# Altium footprint library Vertical, Single-Row, Flange Mount with Tab.PcbLib: 34 footprints (part 1 of 3)
Each footprint in its own frame and in the unit in brackets; x right, y up, seen from the top. Pads: shape width x height; smd on the part's side, far side on the other; paste and mask are expansions set on the pad; w line width, h text height; cw(c..) or ccw(c..) is an arc to the next point about the centre after c.
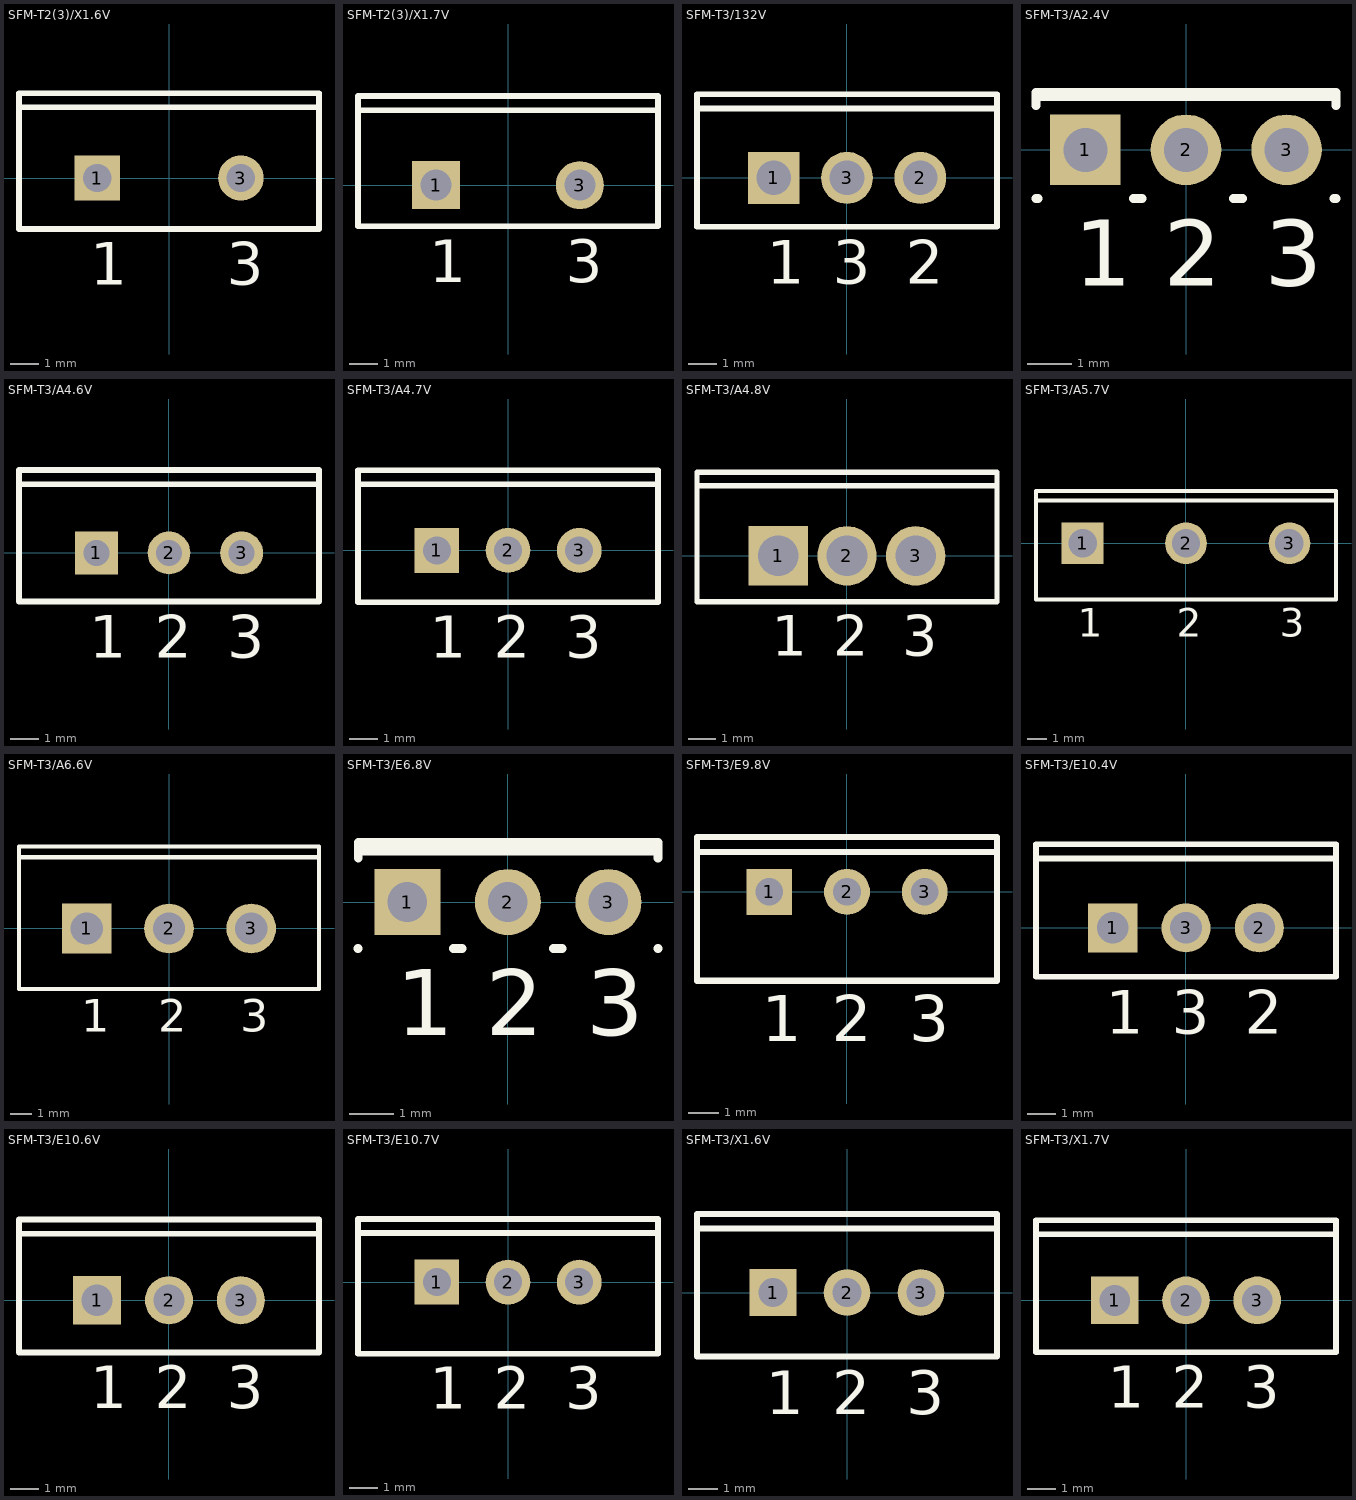
[diagram p0: the footprints below, top view; thin cyan lines are the x and y axes]

## SFM-T2(3)/X1.6V [mm] "TO, Thru-Hole, Vertical, Heatsink Mounted; 3 In-Line Leads (1 Absent); Pitch 2.54 mm"
height 19.3
pads (2):
  rect 1.6x1.6 hole 1: 1(-2.54,0)
  round 1.6 hole 1: 3(2.54,0)
Top Overlay:
  lines w0.2: -5.3,2.5 5.3,2.5 ; -5.3,-1.8 -5.3,3 5.3,3 5.3,-1.8 -5.3,-1.8
  text "1" at -2.79,-3.775 h1.5
  text "3" at 2.04,-3.775 h1.5

## SFM-T2(3)/X1.7V [mm] "TO, Thru-Hole, Vertical, Heatsink Mounted; 3 In-Line Leads (1 Absent); Pitch 2.54 mm"
height 19.2
pads (2):
  rect 1.7x1.7 hole 1.1: 1(-2.54,0)
  round 1.7 hole 1.1: 3(2.54,0)
Top Overlay:
  lines w0.2: -5.3,2.65 5.3,2.65 ; -5.3,-1.45 5.3,-1.45 5.3,3.15 -5.3,3.15 -5.3,-1.45
  text "1" at -2.79,-3.425 h1.5
  text "3" at 2.04,-3.425 h1.5

## SFM-T3/132V [mm] "TO, Thru-Hole, Vertical, Heatsink Mounted; 3 In-Line Leads; Pitch 2.54 mm; Pin sequence 1, 3, 2"
height 16.4
pads (3):
  rect 1.8x1.8 hole 1.2: 1(-2.54,0)
  round 1.8 hole 1.2: 2(2.54,0) 3(0,0)
Top Overlay:
  lines w0.2: -5.2,2.4 5.2,2.4 ; -5.2,-1.7 -5.2,2.9 5.2,2.9 5.2,-1.7 -5.2,-1.7
  text "3" at -0.5,-3.675 h1.5
  text "2" at 2.04,-3.675 h1.5
  text "1" at -2.79,-3.675 h1.5

## SFM-T3/A2.4V [mm] "TO, Thru-Hole, Vertical, Heatsink Mounted; 3 In-Line Leads; Pitch 2.28 mm"
height 9.8
pads (3):
  rect 1.6x1.6 hole 1: 1(-2.28,0)
  round 1.6 hole 1: 2(0,0) 3(2.28,0)
Top Overlay:
  lines w0.2: -3.4,-1.1 -3.35,-1.1 ; -3.4,1 -3.4,1.3 3.4,1.3 3.4,1 ; -3.4,1.21 3.4,1.21 ; -1.19,-1.1 -0.99,-1.1 ; 1.08,-1.1 1.28,-1.1 ; 3.35,-1.1 3.4,-1.1
  text "1" at -2.53,-3.075 h1.5
  text "2" at -0.5,-3.075 h1.5
  text "3" at 1.78,-3.075 h1.5

## SFM-T3/A4.6V [mm] "TO, Thru-Hole, Vertical, Heatsink Mounted; 3 In-Line Leads; Pitch 2.54 mm"
height 19.3
pads (3):
  rect 1.5x1.5 hole 0.9: 1(-2.54,0)
  round 1.5 hole 0.9: 2(0,0) 3(2.54,0)
Top Overlay:
  lines w0.2: -5.25,2.4 5.25,2.4 ; -5.25,-1.7 -5.25,2.9 5.25,2.9 5.25,-1.7 -5.25,-1.7
  text "3" at 2.04,-3.675 h1.5
  text "2" at -0.5,-3.675 h1.5
  text "1" at -2.79,-3.675 h1.5

## SFM-T3/A4.7V [mm] "TO, Thru-Hole, Vertical, Heatsink Mounted; 3 In-Line Leads; Pitch 2.54 mm"
height 22.2
pads (3):
  rect 1.6x1.6 hole 1: 1(-2.54,0)
  round 1.6 hole 1: 2(0,0) 3(2.54,0)
Top Overlay:
  lines w0.2: -5.35,2.35 5.35,2.35 ; -5.35,-1.85 -5.35,2.85 5.35,2.85 5.35,-1.85 -5.35,-1.85
  text "3" at 2.04,-3.825 h1.5
  text "1" at -2.79,-3.825 h1.5
  text "2" at -0.5,-3.825 h1.5

## SFM-T3/A4.8V [mm] "TO, Thru-Hole, Vertical, Heatsink Mounted; 3 In-Line Leads; Pitch 2.54 mm"
height 19.4
pads (3):
  rect 2.2x2.2 hole 1.5: 1(-2.54,0)
  round 2.2 hole 1.5: 2(0,0) 3(2.54,0)
Top Overlay:
  lines w0.2: -5.55,2.6 5.55,2.6 ; -5.55,-1.7 5.55,-1.7 5.55,3.1 -5.55,3.1 -5.55,-1.7
  text "3" at 2.04,-3.7 h1.5
  text "2" at -0.5,-3.7 h1.5
  text "1" at -2.79,-3.7 h1.5

## SFM-T3/A5.7V [mm] "TO, Thru-Hole, Vertical, Heatsink Mounted; 3 In-Line Leads; Pitch 5.45 mm"
height 26.8
pads (3):
  rect 2.2x2.2 hole 1.5: 1(-5.45,0)
  round 2.2 hole 1.5: 2(0,0) 3(5.45,0)
Top Overlay:
  lines w0.2: -7.9,2.25 7.9,2.25 ; -7.9,-2.95 -7.9,2.75 7.9,2.75 7.9,-2.95 -7.9,-2.95
  text "3" at 4.95,-4.925 h1.5
  text "2" at -0.5,-4.925 h1.5
  text "1" at -5.7,-4.925 h1.5

## SFM-T3/A6.6V [mm] "TO, Thru-Hole, Vertical, Heatsink Mounted; 3 In-Line Leads; Pitch 3.81 mm"
height 20.3
pads (3):
  rect 2.3x2.3 hole 1.5: 1(-3.81,0)
  round 2.3 hole 1.5: 2(0,0) 3(3.81,0)
Top Overlay:
  lines w0.2: -6.95,3.3 6.95,3.3 ; -6.95,-2.8 6.95,-2.8 6.95,3.8 -6.95,3.8 -6.95,-2.8
  text "1" at -4.06,-4.775 h1.5
  text "2" at -0.5,-4.775 h1.5
  text "3" at 3.31,-4.775 h1.5

## SFM-T3/E6.8V [mm] "TO, Thru-Hole, Vertical, Heatsink Mounted; 3 In-Line Leads; Pitch 2.28 mm"
height 9.6
pads (3):
  rect 1.5x1.5 hole 0.9: 1(-2.28,0)
  round 1.5 hole 0.9: 2(0,0) 3(2.28,0)
Top Overlay:
  lines w0.2: -3.4,-1.05 -3.395,-1.05 ; -3.395,1 -3.395,1.35 3.405,1.35 3.405,1 ; -3.395,1.16 3.405,1.16 ; -1.235,-1.05 -1.035,-1.05 ; 1.035,-1.05 1.235,-1.05 ; 3.4,-1.05 3.405,-1.05
  text "1" at -2.53,-3.025 h1.5
  text "2" at -0.5,-3.025 h1.5
  text "3" at 1.78,-3.025 h1.5

## SFM-T3/E9.8V [mm] "TO, Thru-Hole, Vertical, Heatsink Mounted; 3 In-Line Leads; Pitch 2.54 mm"
height 22.2
pads (3):
  rect 1.5x1.5 hole 0.9: 1(-2.54,0)
  round 1.5 hole 0.9: 2(0,0) 3(2.54,0)
Top Overlay:
  lines w0.2: -4.9,1.3 4.9,1.3 ; -4.9,-2.9 -4.9,1.8 4.9,1.8 4.9,-2.9 -4.9,-2.9
  text "3" at 2.04,-4.875 h1.5
  text "2" at -0.5,-4.875 h1.5
  text "1" at -2.79,-4.875 h1.5

## SFM-T3/E10.4V [mm] "TO, Thru-Hole, Vertical, Heatsink Mounted; 3 In-Line Leads; Pitch 2.54 mm; Pin sequence 1, 3, 2"
height 19.7
pads (3):
  rect 1.7x1.7 hole 1.1: 1(-2.54,0)
  round 1.7 hole 1.1: 2(2.54,0) 3(0,0)
Top Overlay:
  lines w0.2: -5.2,2.4 5.2,2.4 ; -5.2,-1.7 5.2,-1.7 5.2,2.9 -5.2,2.9 -5.2,-1.7
  text "3" at -0.5,-3.675 h1.5
  text "2" at 2.04,-3.675 h1.5
  text "1" at -2.79,-3.675 h1.5

## SFM-T3/E10.6V [mm] "TO, Thru-Hole, Vertical, Heatsink Mounted; 3 In-Line Leads; Pitch 2.54 mm"
height 21.4
pads (3):
  rect 1.7x1.7 hole 1.1: 1(-2.54,0)
  round 1.7 hole 1.1: 2(0,0) 3(2.54,0)
Top Overlay:
  lines w0.2: -5.3,2.35 5.3,2.35 ; -5.3,-1.85 5.3,-1.85 5.3,2.85 -5.3,2.85 -5.3,-1.85
  text "1" at -2.79,-3.825 h1.5
  text "2" at -0.5,-3.825 h1.5
  text "3" at 2.04,-3.825 h1.5

## SFM-T3/E10.7V [mm] "TO, Thru-Hole, Vertical, Heatsink Mounted; 3 In-Line Leads; Pitch 2.54 mm"
height 19.1
pads (3):
  rect 1.6x1.6 hole 1: 1(-2.54,0)
  round 1.6 hole 1: 2(0,0) 3(2.54,0)
Top Overlay:
  lines w0.2: -5.35,1.75 5.35,1.75 ; -5.35,-2.55 -5.35,2.25 5.35,2.25 5.35,-2.55 -5.35,-2.55
  text "3" at 2.04,-4.525 h1.5
  text "2" at -0.5,-4.525 h1.5
  text "1" at -2.79,-4.525 h1.5

## SFM-T3/X1.6V [mm] "TO, Thru-Hole, Vertical, Heatsink Mounted; 3 In-Line Leads; Pitch 2.54 mm"
height 19.7
pads (3):
  rect 1.6x1.6 hole 1: 1(-2.54,0)
  round 1.6 hole 1: 2(0,0) 3(2.54,0)
Top Overlay:
  lines w0.2: -5.15,2.2 5.15,2.2 ; -5.15,-2.2 -5.15,2.7 5.15,2.7 5.15,-2.2 -5.15,-2.2
  text "3" at 2.04,-4.175 h1.5
  text "2" at -0.5,-4.175 h1.5
  text "1" at -2.79,-4.175 h1.5

## SFM-T3/X1.7V [mm] "TO, Thru-Hole, Vertical, Heatsink Mounted; 3 In-Line Leads; Pitch 2.54 mm"
height 22.9
pads (3):
  rect 1.7x1.7 hole 1.1: 1(-2.54,0)
  round 1.7 hole 1.1: 2(0,0) 3(2.54,0)
Top Overlay:
  lines w0.2: -5.35,2.35 5.35,2.35 ; -5.35,-1.85 -5.35,2.85 5.35,2.85 5.35,-1.85 -5.35,-1.85
  text "3" at 2.04,-3.825 h1.5
  text "2" at -0.5,-3.825 h1.5
  text "1" at -2.79,-3.825 h1.5